# Altium footprint library CornellBajaLibrary.PcbLib: 110 footprints (part 1 of 7)
Each footprint in its own frame and in the unit in brackets; x right, y up, seen from the top. Pads: shape width x height; smd on the part's side, far side on the other; paste and mask are expansions set on the pad; w line width, h text height; cw(c..) or ccw(c..) is an arc to the next point about the centre after c.
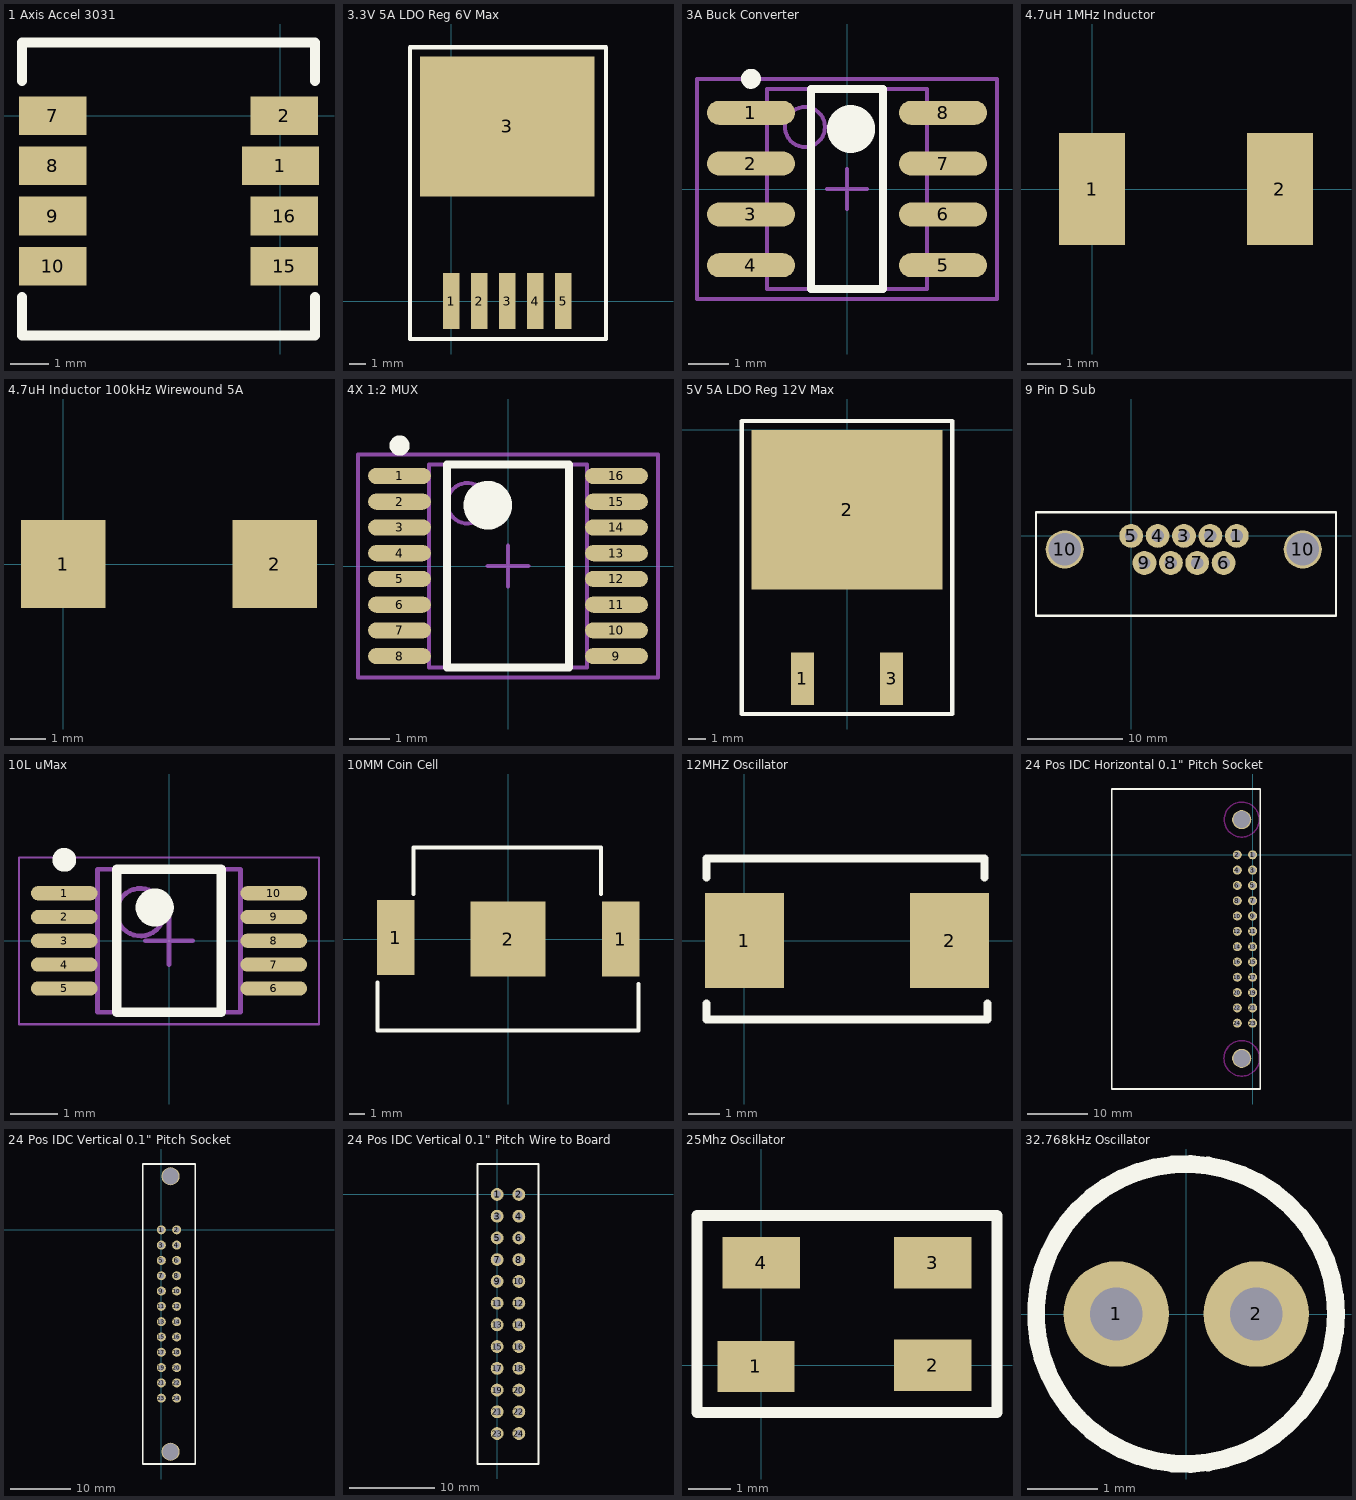
[diagram p0: the footprints below, top view; thin cyan lines are the x and y axes]

## 1 Axis Accel 3031 [mm] "Meas-Spec 3031"
pads (8):
  rect 2x1 smd: 1(0,-1.3)
  rect 1.75x1 smd: 2(0.1,0) 7(-5.9,0) 8(-5.9,-1.3) 9(-5.9,-2.6) 10(-5.9,-3.9) 15(0.1,-3.9) 16(0.1,-2.6)
Top Overlay:
  lines w0.254: -6.7,-4.7 -6.7,-5.7 0.9,-5.7 0.9,-4.7 ; -6.7,0.9 -6.7,1.9 0.9,1.9 0.9,0.9
3D body: height 3.6, standoff 1, extent -6.721,-5.705 0.879,1.895

## 3.3V 5A LDO Reg 6V Max [mm] "TPS75533KTTT"
pads (6):
  rect 1x3.4 smd: 1(0,0) 2(1.7,0) 3(3.4,0) 4(5.1,0) 5(6.8,0)
  rect 10.6x8.5 smd: 3(3.4,10.6)
Top Overlay:
  lines w0.254: -2.5,-2.3 9.4,-2.3 9.4,15.4 -2.5,15.4 -2.5,-2.3
3D body: height 5, standoff 1, extent -2,3 8.8,13.9

## 3A Buck Converter [mm] "SOIC, 8-Leads, Body 5.0x4.0mm (max), Pitch 1.27mm, IPC Medium Density AOZ1031AI"
height 1.75
pads (8):
  oval 2.2x0.6 smd: 1(-2.4,1.905) 2(-2.4,0.635) 3(-2.4,-0.635) 4(-2.4,-1.905) 5(2.4,-1.905) 6(2.4,-0.635) 7(2.4,0.635) 8(2.4,1.905)
Top Overlay:
  circle w0.6: c0.1,1.5 r0.3
  circle w0.25: c-2.4,2.755 r0.125
  lines w0.2: -0.9,-2.5 0.9,-2.5 0.9,2.5 -0.9,2.5 -0.9,-2.5
Mechanical 13:
  circle w0.1: c-1.05,1.55 r0.5
  lines w0.1: -2,-2.5 2,-2.5 2,2.5 -2,2.5 -2,-2.5
Mechanical 15:
  lines w0.1: -0.5,0 0.5,0 ; 0,-0.5 0,0.5 ; -3.75,-2.75 3.75,-2.75 3.75,2.75 -3.75,2.75 -3.75,-2.75
3D body: height 1.75, standoff 0.1, extent -2,-2.5 2,2.5

## 4.7uH 1MHz Inductor [mm] "CDMC6D28NP-4R7MC"
pads (2):
  rect 2x3.4 smd: 1(0,0) 2(5.7,0)
3D body: height 3, standoff 0.5, extent -0.775,-3.225 6.475,3.275

## 4.7uH Inductor 100kHz Wirewound 5A [mm] "SRP7030-4R7FM"
pads (2):
  rect 2.4x2.5 smd: 1(0,0) 2(6,0)
3D body: height 3.5, standoff 0.3, extent -0.75,-3.25 6.75,3.25

## 4X 1:2 MUX [mm] "FST3257  QSOP"
height 1.65
pads (16):
  oval 1.55x0.4 smd: 1(-2.675,2.222) 2(-2.675,1.587) 3(-2.675,0.953) 4(-2.675,0.318) 5(-2.675,-0.318) 6(-2.675,-0.953) 7(-2.675,-1.587) 8(-2.675,-2.222) 9(2.675,-2.222) 10(2.675,-1.587) 11(2.675,-0.953) 12(2.675,-0.318) 13(2.675,0.318) 14(2.675,0.953) 15(2.675,1.587) 16(2.675,2.222)
Top Overlay:
  circle w0.25: c-2.675,2.973 r0.125
  circle w0.6: c-0.5,1.5 r0.3
  lines w0.2: -1.5,-2.5 -1.5,2.5 1.5,2.5 1.5,-2.5 -1.5,-2.5
Mechanical 13:
  circle w0.1: c-1,1.55 r0.5
  lines w0.1: -1.95,-2.5 -1.95,2.5 1.95,2.5 1.95,-2.5 -1.95,-2.5
Mechanical 15:
  lines w0.1: -0.5,0 0.5,0 ; 0,-0.5 0,0.5 ; -3.7,-2.75 -3.7,2.75 3.7,2.75 3.7,-2.75 -3.7,-2.75
3D body: height 1.65, standoff 0.1, extent -1.95,-2.5 1.95,2.5

## 5V 5A LDO Reg 12V Max [mm] "AP1084K50L-U"
height 4.5
pads (3):
  rect 1.3x3 smd: 1(-2.54,-14.2) 3(2.54,-14.2)
  rect 10.9x9.1 smd: 2(0,-4.55)
Top Overlay:
  lines w0.254: -6,-16.2 6,-16.2 6,0.5 -6,0.5 -6,-16.2
3D body: height 5, standoff 1, extent -5.5,-11.3 5.5,-0.5

## 9 Pin D Sub [mm]
height 12.5
pads (11):
  round 2.5 hole 1.3: 1(11.08,0) 2(8.31,0) 3(5.54,0) 4(2.77,0) 5(0,0) 6(9.7,-2.84) 7(6.93,-2.84) 8(4.16,-2.84) 9(1.39,-2.84)
  round 4 hole 3.4: 10(-6.98,-1.42) 10(18.01,-1.42)
Top Overlay:
  lines w0.254: -10,-8.4 21.5,-8.4 21.5,2.5 -10,2.5 -10,-8.4

## 10L uMax [mm] "TSSOP, 10-Leads, Body 2.95x2.95mm, Pitch 0.50mm, IPC Medium Density"
height 1.1
pads (10):
  oval 1.4x0.3 smd: 1(-2.2,1) 2(-2.2,0.5) 3(-2.2,0) 4(-2.2,-0.5) 5(-2.2,-1) 6(2.2,-1) 7(2.2,-0.5) 8(2.2,0) 9(2.2,0.5) 10(2.2,1)
Top Overlay:
  circle w0.4: c-0.3,0.7 r0.2
  circle w0.25: c-2.2,1.7 r0.125
  lines w0.2: -1.1,-1.5 1.1,-1.5 1.1,1.5 -1.1,1.5 -1.1,-1.5
Mechanical 13:
  circle w0.1: c-0.6,0.6 r0.5
  lines w0.1: -1.5,-1.5 1.5,-1.5 1.5,1.5 -1.5,1.5 -1.5,-1.5
Mechanical 15:
  lines w0.05: -3.15,-1.75 3.15,-1.75 3.15,1.75 -3.15,1.75 -3.15,-1.75
  lines w0.1: -0.5,0 0.5,0 ; 0,-0.5 0,0.5
3D body: height 1.1, standoff 0.05, extent -1.5,-1.5 1.5,1.5

## 10MM Coin Cell [mm] "BHX1-1025-SM"
height 4
pads (3):
  rect 2.5x5 smd: 1(-7.5,0.1) 1(7.5,0)
  rect 5x5 smd: 2(0,0)
Top Overlay:
  lines w0.254: -8.7,-2.9 -8.7,-6.1 8.7,-6.1 8.7,-3 ; -6.3,3 -6.3,6.1 6.2,6.1 6.2,3
3D body: height 4, standoff 0, extent -6.3,-6.1 6.2,6.1

## 12MHZ Oscillator [mm] "ABM2-12.000MHZ-D4Y-T"
height 1.5
pads (2):
  rect 2.5x3 smd: 1(0,0) 2(6.5,0)
Top Overlay:
  lines w0.254: -1.2,-2 -1.2,-2.5 7.7,-2.5 7.7,-2 ; -1.2,2 -1.2,2.6 7.6,2.6 7.6,2
3D body: height 1.5, standoff 0, extent -1.2,-2.5 7.6,2.6

## 24 Pos IDC Horizontal 0.1" Pitch Socket [mm]
pads (26):
  round 1.5 hole 0.889: 1(0,0) 2(-2.54,0) 3(0,-2.54) 4(-2.54,-2.54) 5(0,-5.08) 6(-2.54,-5.08) 7(0,-7.62) 8(-2.54,-7.62) 9(0,-10.16) 10(-2.54,-10.16) 11(0,-12.7) 12(-2.54,-12.7) 13(0,-15.24) 14(-2.54,-15.24) 15(0,-17.78) 16(-2.54,-17.78) 17(0,-20.32) 18(-2.54,-20.32) 19(0,-22.86) 20(-2.54,-22.86) 21(0,-25.4) 22(-2.54,-25.4) 23(0,-27.94) 24(-2.54,-27.94)
  round 3.175 hole 2.794: ""(-1.803,-33.782) ""(-1.803,5.842)
Top Overlay:
  lines w0.254: -23.368,-38.862 1.27,-38.862 1.27,10.922 -23.368,10.922 -23.368,-38.862
Keep-Out Layer:
  circle w0.254: c-1.803,5.842 r2.898
  circle w0.254: c-1.803,-33.782 r2.949
3D body: height 8.7, standoff -2.63, extent -23.364,-38.862 0.991,10.922

## 24 Pos IDC Vertical 0.1" Pitch Socket [mm]
pads (26):
  round 1.5 hole 0.889: 1(0,0) 2(2.54,0) 3(0,-2.54) 4(2.54,-2.54) 5(0,-5.08) 6(2.54,-5.08) 7(0,-7.62) 8(2.54,-7.62) 9(0,-10.16) 10(2.54,-10.16) 11(0,-12.7) 12(2.54,-12.7) 13(0,-15.24) 14(2.54,-15.24) 15(0,-17.78) 16(2.54,-17.78) 17(0,-20.32) 18(2.54,-20.32) 19(0,-22.86) 20(2.54,-22.86) 21(0,-25.4) 22(2.54,-25.4) 23(0,-27.94) 24(2.54,-27.94)
  round 3 hole 2.69: ""(1.524,-36.83) ""(1.524,8.89)
Top Overlay:
  lines w0.254: -3.048,-38.862 -3.048,10.922 5.588,10.922 5.588,-38.862 -3.048,-38.862
3D body: height 23.09, standoff 0, extent -3.048,-38.862 5.588,10.922

## 24 Pos IDC Vertical 0.1" Pitch Wire to Board [mm]
pads (24):
  round 1.5 hole 0.889: 1(0,0) 2(2.54,0) 3(0,-2.54) 4(2.54,-2.54) 5(0,-5.08) 6(2.54,-5.08) 7(0,-7.62) 8(2.54,-7.62) 9(0,-10.16) 10(2.54,-10.16) 11(0,-12.7) 12(2.54,-12.7) 13(0,-15.24) 14(2.54,-15.24) 15(0,-17.78) 16(2.54,-17.78) 17(0,-20.32) 18(2.54,-20.32) 19(0,-22.86) 20(2.54,-22.86) 21(0,-25.4) 22(2.54,-25.4) 23(0,-27.94) 24(2.54,-27.94)
Top Overlay:
  lines w0.254: -2.286,-31.496 4.826,-31.496 4.826,3.556 -2.286,3.556 -2.286,-31.496
3D body: height 6.78, standoff -3.66, extent -2.261,-31.496 4.801,3.556

## 25Mhz Oscillator [mm]
pads (4):
  rect 1.8x1.2 smd: 1(-0.127,-0.025) 2(4,0) 3(4,2.4) 4(0,2.4)
Top Overlay:
  lines w0.254: -1.5,-1.1 5.5,-1.1 5.5,3.5 -1.5,3.5 -1.5,-1.1

## 32.768kHz Oscillator [mm] "CFS-206"
pads (2):
  round 1.5 hole 0.75: 1(-0.992,0) 2(1,0)
Top Overlay:
  circle w0.254: c0,0 r2.134
3D body: height 7, standoff 0, extent -0.992,-0.998 1,0.998